# Altium integrated library Philips Discrete Diode - Switching.IntLib: 284 symbols (part 5 of 5)
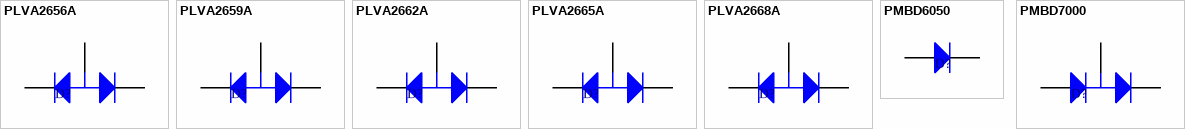
[diagram p11: symbols PLVA2656A to PMBD7000]

## PLVA2662A
designator D?
Low-voltage Avalanche Regulator, Double Diodes; Published: 17-Sep-2003; DatasheetVersion: 15-Oct-2001; PackageVersion: May-1999; PackageReference: SOT23; Publisher: Altium Limited; PackageDescription: SOT-23; 3 Leads; Body 3.0 x 2.5 mm, inc. leads (LxW max); ComponentLink1Description: Manufacturer Link; ComponentLink1URL: http://www.semiconductors.philips.com/; ComponentLink2Description: Datasheet; ComponentLink2URL: http://www.semiconductors.philips.com/acrobat/datasheets/PLVA2600A_SERIES_4.pdf
footprint SOT23 (SOT-23; 3 Leads; Body 3.0 x 2.5 mm, inc. leads (LxW max))
simulation model PLVA2662A (SUBCKT)
signal-integrity model PLVA2662A
pins: 1 K1, 2 K2, 3 A

## PLVA2665A
designator D?
Low-voltage Avalanche Regulator, Double Diodes; Published: 17-Sep-2003; DatasheetVersion: 15-Oct-2001; PackageVersion: May-1999; PackageReference: SOT23; Publisher: Altium Limited; PackageDescription: SOT-23; 3 Leads; Body 3.0 x 2.5 mm, inc. leads (LxW max); ComponentLink1Description: Manufacturer Link; ComponentLink1URL: http://www.semiconductors.philips.com/; ComponentLink2Description: Datasheet; ComponentLink2URL: http://www.semiconductors.philips.com/acrobat/datasheets/PLVA2600A_SERIES_4.pdf
footprint SOT23 (SOT-23; 3 Leads; Body 3.0 x 2.5 mm, inc. leads (LxW max))
simulation model PLVA2665A (SUBCKT)
signal-integrity model PLVA2665A
pins: 1 K1, 2 K2, 3 A

## PLVA2668A
designator D?
Low-voltage Avalanche Regulator, Double Diodes; Published: 17-Sep-2003; DatasheetVersion: 15-Oct-2001; PackageVersion: May-1999; PackageReference: SOT23; Publisher: Altium Limited; PackageDescription: SOT-23; 3 Leads; Body 3.0 x 2.5 mm, inc. leads (LxW max); ComponentLink1Description: Manufacturer Link; ComponentLink1URL: http://www.semiconductors.philips.com/; ComponentLink2Description: Datasheet; ComponentLink2URL: http://www.semiconductors.philips.com/acrobat/datasheets/PLVA2600A_SERIES_4.pdf
footprint SOT23 (SOT-23; 3 Leads; Body 3.0 x 2.5 mm, inc. leads (LxW max))
simulation model PLVA2668A (SUBCKT)
signal-integrity model PLVA2668A
pins: 1 K1, 2 K2, 3 A

## PMBD6050
designator D?
High-speed Switching Diode; Note: Pin 2 is not connected and not drawn; Published: 17-Sep-2003; DatasheetVersion: 11-May-1999; PackageVersion: May-1999; PackageReference: SOT23; Publisher: Altium Limited; PackageDescription: SOT-23; 3 Leads; Body 3.0 x 2.5 mm, inc. leads (LxW max); ComponentLink1Description: Manufacturer Link; ComponentLink1URL: http://www.semiconductors.philips.com/; ComponentLink2Description: Datasheet; ComponentLink2URL: http://www.semiconductors.philips.com/acrobat/datasheets/PMBD6050_4.pdf
footprint SOT23 (SOT-23; 3 Leads; Body 3.0 x 2.5 mm, inc. leads (LxW max))
simulation model PMBD6050 (SUBCKT)
signal-integrity model PMBD6050
pins: 1 A, 3 K

## PMBD7000
designator D?
High-speed Switching, Double Diode; Published: 17-Sep-2003; DatasheetVersion: 11-May-1999; PackageVersion: May-1999; PackageReference: SOT23; Publisher: Altium Limited; PackageDescription: SOT-23; 3 Leads; Body 3.0 x 2.5 mm, inc. leads (LxW max); ComponentLink1Description: Manufacturer Link; ComponentLink1URL: http://www.semiconductors.philips.com/; ComponentLink2Description: Datasheet; ComponentLink2URL: http://www.semiconductors.philips.com/acrobat/datasheets/PMBD7000_3.pdf
footprint SOT23 (SOT-23; 3 Leads; Body 3.0 x 2.5 mm, inc. leads (LxW max))
simulation model PMBD7000 (SUBCKT)
signal-integrity model PMBD7000
pins: 1 A, 2 K, 3 C